# EAGLE library part 6510 (library 326298_rev_a)
Processor used in Commodore 64 and VIC-10
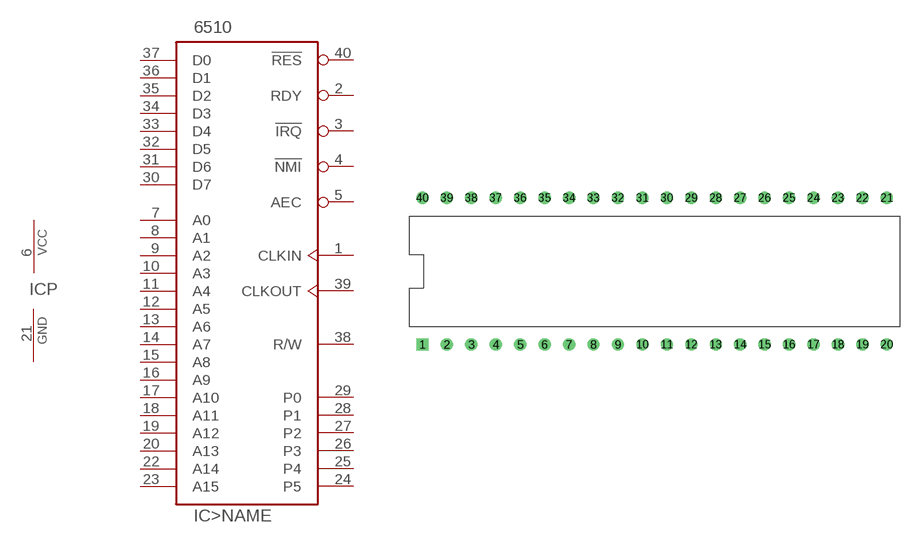
[diagram p6: symbol with the pads of DIP40; footprint DIP40]

Designator prefix IC; gates >NAME=6510 P=PWRN

## 6510  [DIP40]
1  >NAME:CLKIN  in
2  >NAME:RDY  in
3  >NAME:!IRQ!  in
4  >NAME:!NMI!  in
5  >NAME:AEC  in
6  P:VCC  pwr
7  >NAME:A0  hiz
8  >NAME:A1  hiz
9  >NAME:A2  hiz
10  >NAME:A3  hiz
11  >NAME:A4  hiz
12  >NAME:A5  hiz
13  >NAME:A6  hiz
14  >NAME:A7  hiz
15  >NAME:A8  hiz
16  >NAME:A9  hiz
17  >NAME:A10  hiz
18  >NAME:A11  hiz
19  >NAME:A12  hiz
20  >NAME:A13  hiz
21  P:GND  pwr
22  >NAME:A14  hiz
23  >NAME:A15  hiz
24  >NAME:P5
25  >NAME:P4
26  >NAME:P3
27  >NAME:P2
28  >NAME:P1
29  >NAME:P0
30  >NAME:D7
31  >NAME:D6
32  >NAME:D5
33  >NAME:D4
34  >NAME:D3
35  >NAME:D2
36  >NAME:D1
37  >NAME:D0
38  >NAME:R/W  hiz
39  >NAME:CLKOUT  out
40  >NAME:!RES!  in

## Footprint DIP40 (pad centres in mm)
drill 0.61 pad 1.27 square: 1 -24.13,-7.62
drill 0.61 pad 1.27: 2 -21.59,-7.62; 3 -19.05,-7.62; 4 -16.51,-7.62; 5 -13.97,-7.62; 6 -11.43,-7.62; 7 -8.89,-7.62; 8 -6.35,-7.62; 9 -3.81,-7.62; 10 -1.27,-7.62; 11 1.27,-7.62; 12 3.81,-7.62; 13 6.35,-7.62; 14 8.89,-7.62; 15 11.43,-7.62; 16 13.97,-7.62; 17 16.51,-7.62; 18 19.05,-7.62; 19 21.59,-7.62; 20 24.13,-7.62; 21 24.13,7.62; 22 21.59,7.62; 23 19.05,7.62; 24 16.51,7.62; 25 13.97,7.62; 26 11.43,7.62; 27 8.89,7.62; 28 6.35,7.62; 29 3.81,7.62; 30 1.27,7.62; 31 -1.27,7.62; 32 -3.81,7.62; 33 -6.35,7.62; 34 -8.89,7.62; 35 -11.43,7.62; 36 -13.97,7.62; 37 -16.51,7.62; 38 -19.05,7.62; 39 -21.59,7.62; 40 -24.13,7.62